# EAGLE library part AT24CXX (library vikc-ic)
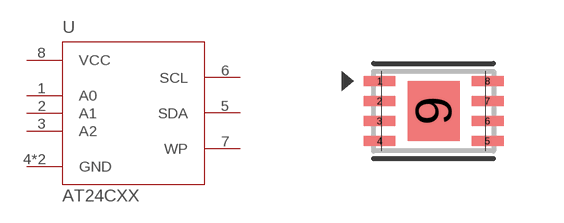
[diagram p20: symbol with the pads of UDFN8_W; footprint UDFN8_W]

Designator prefix U

## AT24CXX  [UDFN8_W]
1  A0
2  A1
3  A2
4  GND  pwr
5  SDA
6  SCL
7  WP
8  VCC  pwr
9  GND  pwr

## Footprint UDFN8_W (pad centres in mm)
smd 0.8 x 0.25: 1 -1.35,0.75; 2 -1.35,0.25; 3 -1.35,-0.25; 4 -1.35,-0.75; 5 1.35,-0.75; 6 1.35,-0.25; 7 1.35,0.25; 8 1.35,0.75
smd 1.3 x 1.5: 9 0,0